# Altium schematic symbol library Arduino.SchLib: 7 symbols
Pins are listed as number, name and electrical type; pins without a type are passive.

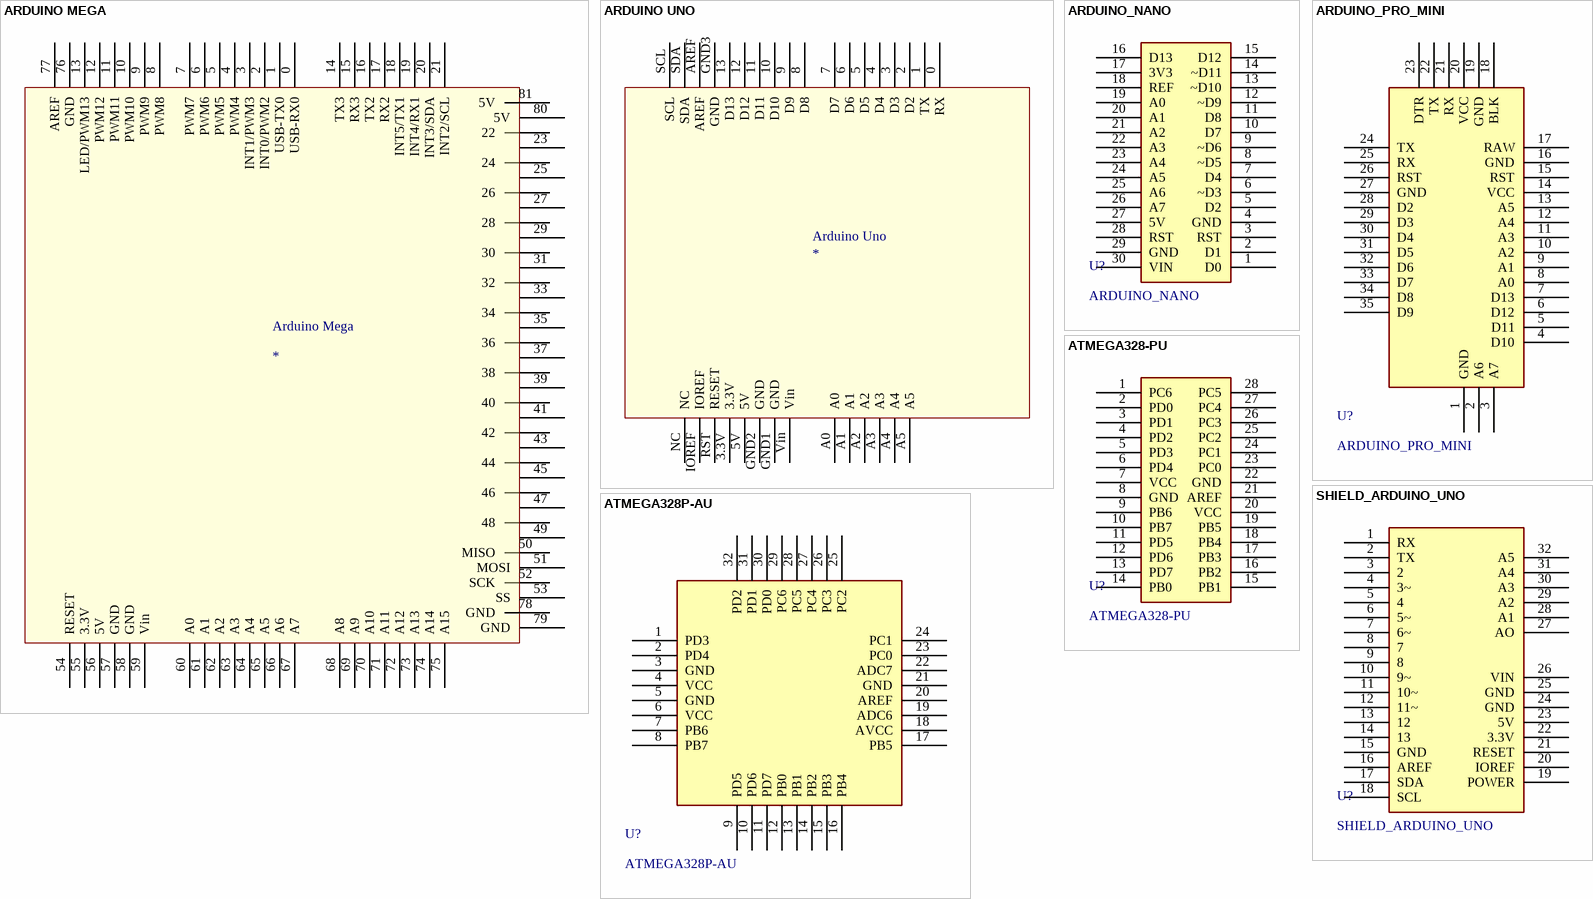
[diagram p0: symbols ARDUINO MEGA to SHIELD_ARDUINO_UNO]

## ARDUINO MEGA
designator Arduino Mega
footprint Arduino Mega (Arduino Mega 2560)
pins: 0 USB-RX0, 1 USB-TX0, 2 INT0/PWM2, 3 INT1/PWM3, 4 PWM4, 5 PWM5, 6 PWM6, 7 PWM7, 8 PWM8, 9 PWM9, 10 PWM10, 11 PWM11, 12 PWM12, 13 LED/PWM13, 14 TX3, 15 RX3, 16 TX2, 17 RX2, 18 INT5/TX1, 19 INT4/RX1, 20 INT3/SDA, 21 INT2/SCL, 22, 23, 24, 25, 26, 27, 28, 29, 30, 31, 32, 33, 34, 35, 36, 37, 38, 39, 40, 41, 42, 43, 44, 45, 46, 47, 48, 49, 50 MISO, 51 MOSI, 52 SCK, 53 SS, 54 RESET, 55 3.3V, 56 5V, 57 GND, 58 GND, 59 Vin, 60 A0, 61 A1, 62 A2, 63 A3, 64 A4, 65 A5, 66 A6, 67 A7, 68 A8, 69 A9, 70 A10, 71 A11, 72 A12, 73 A13, 74 A14, 75 A15, 76 GND, 77 AREF, 78 GND, 79 GND, 80 5V, 81 5V

## ARDUINO UNO
designator Arduino Uno
footprint Arduino Uno
pins: 0 RX, 1 TX, 2 D2, 3 D3, 3.3V, 4 D4, 5 D5, 5V, 6 D6, 7 D7, 8 D8, 9 D9, 10 D10, 11 D11, 12 D12, 13 D13, A0, A1, A2, A3, A4, A5, AREF, GND1 GND, GND2 GND, GND3 GND, IOREF, NC, RST RESET, SCL, SDA, Vin

## ARDUINO_NANO
designator U?
Based on ATmega328P, Clock 16MHz, Flash 32KB, 14 Digital Pins, 8 Analog Pins, 5V, Vin 7-12V.; ComponentLink1Description: Datasheet; ComponentLink1URL: https://ww1.microchip.com/downloads/en/DeviceDoc/Atmel-7810-Automotive-Microcontrollers-ATmega328P_Datasheet.pdf
footprint ARDUINO_NANO (Based on ATmega328P, clock 16MHz, flash 32KB, 14 Digital Pins, 8 Analog Pins, 5V, Vin 7-12V.)
pins: 1 D0, 2 D1, 3 RST, 4 GND, 5 D2, 6 ~D3, 7 D4, 8 ~D5, 9 ~D6, 10 D7, 11 D8, 12 ~D9, 13 ~D10, 14 ~D11, 15 D12, 16 D13, 17 3V3, 18 REF, 19 A0, 20 A1, 21 A2, 22 A3, 23 A4, 24 A5, 25 A6, 26 A7, 27 5V, 28 RST, 29 GND, 30 VIN

## ARDUINO_PRO_MINI
designator U?
Based on ATmega328P, Clock 8/16MHz, Flash 32KB, 14 Digital Pins, 8 Analog Pins, 3.3/5V.; ComponentLink1Description: Datasheet; ComponentLink1URL: https://ww1.microchip.com/downloads/en/DeviceDoc/Atmel-7810-Automotive-Microcontrollers-ATmega328P_Datasheet.pdf
footprint ARDUINO_PRO_MINI (Based on ATmega328P, clock 8/16MHz, flash 32KB, 14 Digital Pins, 8 Analog Pins, 3.3/5V.)
pins: 1 GND, 2 A6, 3 A7, 4 D10, 5 D11, 6 D12, 7 D13, 8 A0, 9 A1, 10 A2, 11 A3, 12 A4, 13 A5, 14 VCC, 15 RST, 16 GND, 17 RAW, 18 BLK, 19 GND, 20 VCC, 21 RX, 22 TX, 23 DTR, 24 TX, 25 RX, 26 RST, 27 GND, 28 D2, 29 D3, 30 D4, 31 D5, 32 D6, 33 D7, 34 D8, 35 D9

## ATMEGA328-PU
designator U?
AVR Microcontroller 8 Bits, Clock max 20MHz, Flash 32KB, 2KB SRAM, 1KB EEPROM, 23 GPIOs, 1.8-5.5V, DIP-28.; ComponentLink1Description: Datasheet; ComponentLink1URL: https://ww1.microchip.com/downloads/en/DeviceDoc/ATmega48A-PA-88A-PA-168A-PA-328-P-DS-DS40002061B.pdf; Mouser PN: 556-ATMEGA328P-PU; Digikey PN: ATMEGA328P-PU-ND; JLCPCB PN: C613508
footprint DIP-28
pins: 1 PC6, 2 PD0, 3 PD1, 4 PD2, 5 PD3, 6 PD4, 7 VCC, 8 GND, 9 PB6, 10 PB7, 11 PD5, 12 PD6, 13 PD7, 14 PB0, 15 PB1, 16 PB2, 17 PB3, 18 PB4, 19 PB5, 20 VCC, 21 AREF, 22 GND, 23 PC0, 24 PC1, 25 PC2, 26 PC3, 27 PC4, 28 PC5

## ATMEGA328P-AU
designator U?
AVR Microcontroller 8 Bits, Clock max 20MHz, Flash 32KB, 2KB SRAM, 1KB EEPROM, 23 GPIOs, 1.8-5.5V, TQFP-32(7x7).; Mouser PN: 556-ATMEGA328P-AU; Digikey PN: ATMEGA328P-AU-ND; JLCPCB PN: C132230; ComponentLink1Description: Datasheet; ComponentLink1URL: https://ww1.microchip.com/downloads/en/DeviceDoc/ATmega48A-PA-88A-PA-168A-PA-328-P-DS-DS40002061B.pdf
footprint TQFP-32 (TQFP-32(7x7))
pins: 1 PD3, 2 PD4, 3 GND, 4 VCC, 5 GND, 6 VCC, 7 PB6, 8 PB7, 9 PD5, 10 PD6, 11 PD7, 12 PB0, 13 PB1, 14 PB2, 15 PB3, 16 PB4, 17 PB5, 18 AVCC, 19 ADC6, 20 AREF, 21 GND, 22 ADC7, 23 PC0, 24 PC1, 25 PC2, 26 PC3, 27 PC4, 28 PC5, 29 PC6, 30 PD0, 31 PD1, 32 PD2

## SHIELD_ARDUINO_UNO
designator U?
General Shield for Arduino Uno.
footprint ARDUINO_UNO_SHIELD
pins: 1 RX, 2 TX, 3 2, 4 3~, 5 4, 6 5~, 7 6~, 8 7, 9 8, 10 9~, 11 10~, 12 11~, 13 12, 14 13, 15 GND, 16 AREF, 17 SDA, 18 SCL, 19 POWER, 20 IOREF, 21 RESET, 22 3.3V, 23 5V, 24 GND, 25 GND, 26 VIN, 27 AO, 28 A1, 29 A2, 30 A3, 31 A4, 32 A5